# EAGLE library part 282834-6 (library 282834-6)
TERM BLOCK 6POS SIDE ENT 2.54MM Check prices <https://pricing.snapeda.com/parts/282834-6/TE%20Connectivity/view-part?ref=eda>
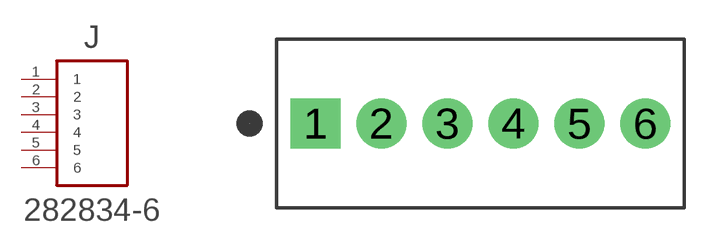
[diagram p0: symbol with the pads of TE_282834-6; footprint TE_282834-6]

Designator prefix J

## 282834-6 (AVAILABILITY: Good; COMMENT: 282834-6; DESCRIPTION: Wire-To-Board Terminal Block, 6, 150 V, 10 A, 30 Awg, 16 Awg, 1.4 Mm; EU_ROHS_COMPLIANCE: Compliant with Exemptions; MF: TE Connectivity; MP: 282834-6; PACKAGE: None; PRICE: None; PURCHASE-URL: https://pricing.snapeda.com/search/part/282834-6/?ref=eda)  [TE_282834-6]
1  1  pas
2  2  pas
3  3  pas
4  4  pas
5  5  pas
6  6  pas

## Footprint TE_282834-6 (pad centres in mm)
drill 1.28 pad 1.92 square: 1 -6.35,0
drill 1.28 pad 1.92: 2 -3.81,0; 3 -1.27,0; 4 1.27,0; 5 3.81,0; 6 6.35,0